# EAGLE library part 3B4 (library radiotubes)
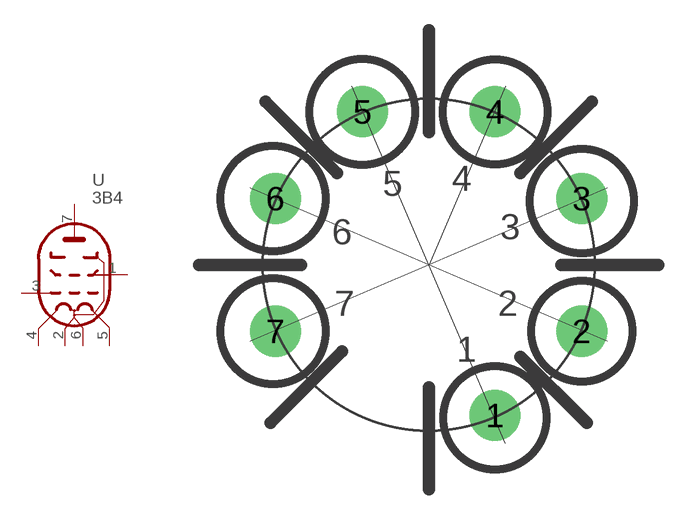
[diagram p146: symbol with the pads of MI7PIN; footprint MI7PIN]

Designator prefix -

## 3B4  [MI7PIN]
1  SG  pas
2  FM1  pas
3  G1  pas
4  F1  pas
5  F2  pas
6  FM2  pas
7  A  pas

## Footprint MI7PIN (pad centres in mm)
drill 0.813 pad 2.54: 1 3.302,-7.493; 2 7.62,-3.302; 3 7.62,3.302; 4 3.302,7.62; 5 -3.302,7.62; 6 -7.62,3.302; 7 -7.62,-3.302